# Altium schematic symbol library BRE-3728.SchLib: 1 symbol
Pins are listed as number, name and electrical type; pins without a type are passive.

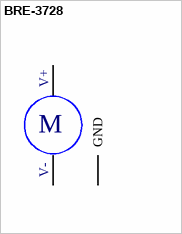
[diagram p0: symbol BRE-3728]

## BRE-3728
designator M?
Motor DC 2.7V
pins: 1, 2, 3 GND (power)
text: V+; M; V-